# Altium integrated library Renesas Microprocessor SuperH.IntLib: 433 symbols (part 32 of 62)
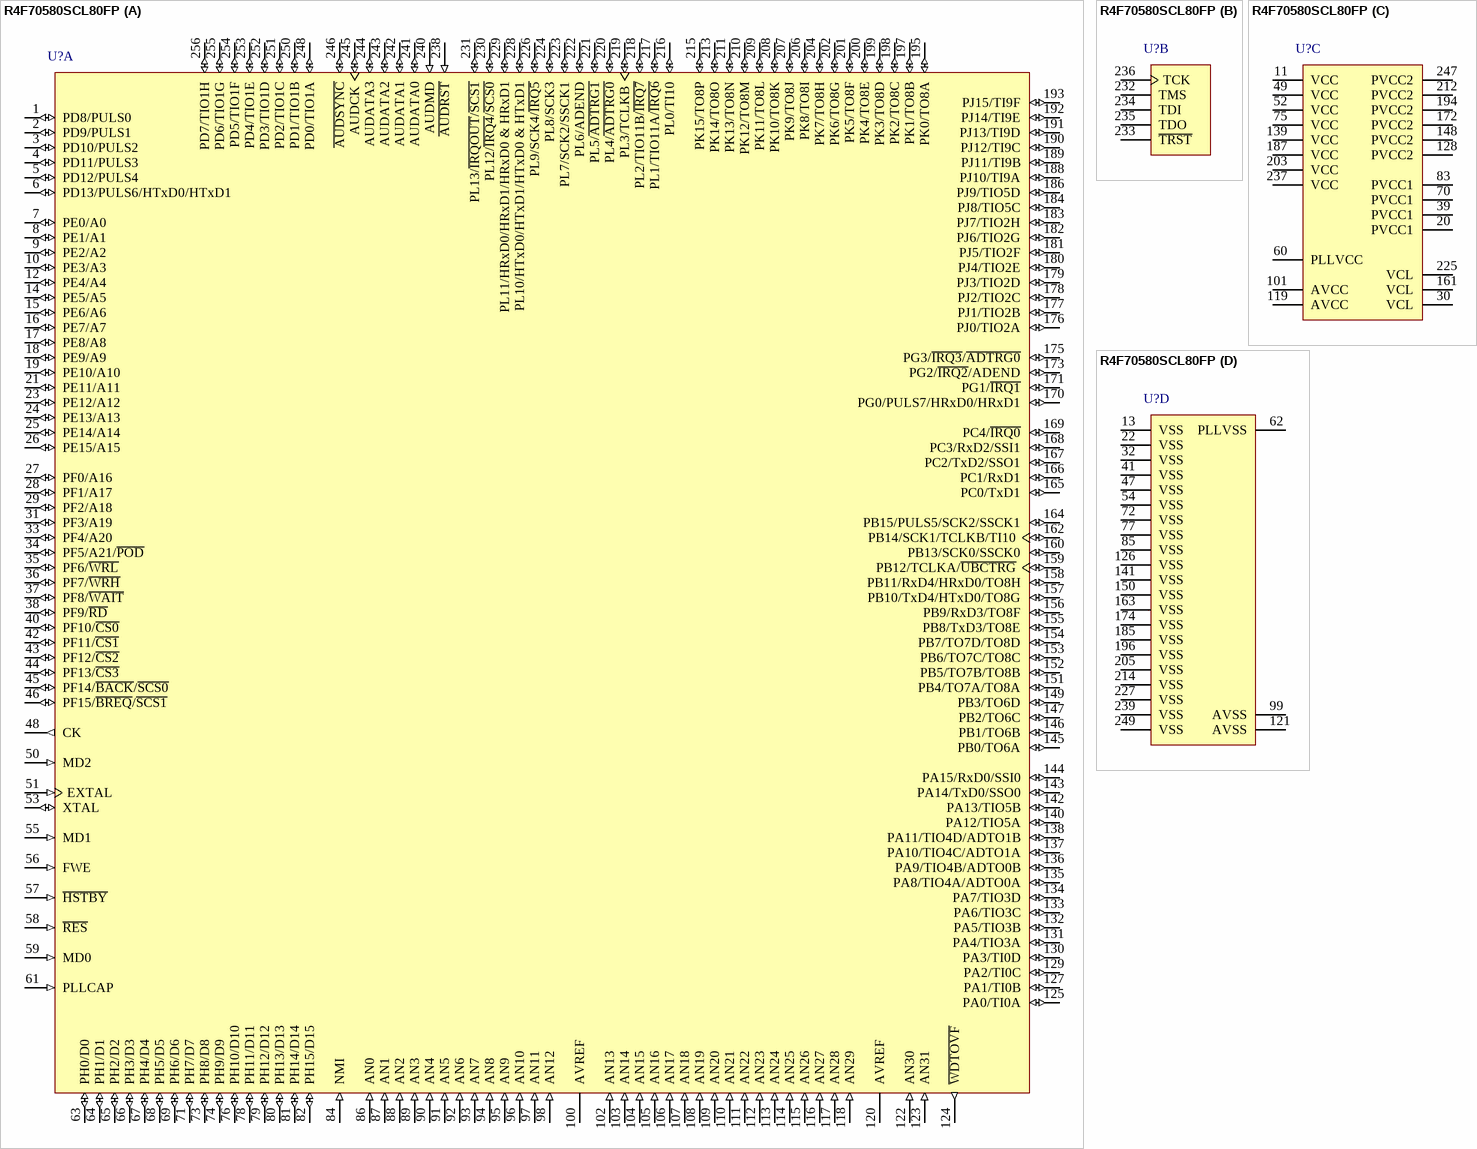
[diagram p401: symbol R4F70580SCL80FP]

## R4F70580SCL80FP
designator U?
32-Bit RISC Microcomputer, SH7050 Series, SH-2E core, 80MHz, 1M ROM, 48K RAM, 256-pin PQFP, -40 to 125°C; Published: 28-Aug-2009; DatasheetVersion: Rev.4.00, Mar-2009; PackageVersion: Sep-2005; PackageReference: PRQP0256KB-A; Publisher: Altium Limited; PackageDescription: 256-Pin Plastic Quad Flat Pack, 40 x 28 x 3.2 mm Body, 0.5 mm Pitch; Code_JEITA: P-QFP256-28x40-0.50; ComponentLink1Description: Manufacturer Link; ComponentLink1URL: http://www.renesas.com/fmwk.jsp?cnt=sh7059_root.jsp&fp=/products/mpumcu/superh_family/sh7050_series/sh7059_group/; ComponentLink2Description: Datasheet; ComponentLink2URL: http://documentation.renesas.com/eng/products/mpumcu/rej09b0177_7059_58fhm.pdf; ComponentLink3Description: Packaging Specification; ComponentLink3URL: http://sg.renesas.com/media/products/common_info/package/pdf/ic/code/prqp0256kb_a.pdf
footprint PRQP0256KB-A_N (Shrink QFP, 256-Leads, Body 40x28 mm, Pitch 0.5mm, IPC Medium Density)
footprint PRQP0256KB-A_L (Shrink QFP, 256-Leads, Body 40x28 mm, Pitch 0.5mm, IPC High Density)
footprint PRQP0256KB-A_M (Shrink QFP, 256-Leads, Body 40x28 mm, Pitch 0.5mm, IPC Low Density)
part A pins: 1 PD8/PULS0 (io), 2 PD9/PULS1 (io), 3 PD10/PULS2 (io), 4 PD11/PULS3 (io), 5 PD12/PULS4 (io), 6 PD13/PULS6/HTxD0/HTxD1 (io), 7 PE0/A0 (io), 8 PE1/A1 (io), 9 PE2/A2 (io), 10 PE3/A3 (io), 12 PE4/A4 (io), 14 PE5/A5 (io), 15 PE6/A6 (io), 16 PE7/A7 (io), 17 PE8/A8 (io), 18 PE9/A9 (io), 19 PE10/A10 (io), 21 PE11/A11 (io), 23 PE12/A12 (io), 24 PE13/A13 (io), 25 PE14/A14 (io), 26 PE15/A15 (io), 27 PF0/A16 (io), 28 PF1/A17 (io), 29 PF2/A18 (io), 31 PF3/A19 (io), 33 PF4/A20 (io), 34 PF5/A21/~{POD} (io), 35 PF6/~{WRL} (io), 36 PF7/~{WRH} (io), 37 PF8/~{WAIT} (io), 38 PF9/~{RD} (io), 40 PF10/~{CS0} (io), 42 PF11/~{CS1} (io), 43 PF12/~{CS2} (io), 44 PF13/~{CS3} (io), 45 PF14/~{BACK}/~{SCS0} (io), 46 PF15/~{BREQ}/~{SCS1} (io), 48 CK (out), 50 MD2 (in), 51 EXTAL (in), 53 XTAL (io), 55 MD1 (in), 56 FWE (in), 57 ~{HSTBY} (in), 58 ~{RES} (in), 59 MD0 (in), 61 PLLCAP (in), 63 PH0/D0 (io), 64 PH1/D1 (io), 65 PH2/D2 (io), 66 PH3/D3 (io), 67 PH4/D4 (io), 68 PH5/D5 (io), 69 PH6/D6 (io), 71 PH7/D7 (io), 73 PH8/D8 (io), 74 PH9/D9 (io), 76 PH10/D10 (io), 78 PH11/D11 (io), 79 PH12/D12 (io), 80 PH13/D13 (io), 81 PH14/D14 (io), 82 PH15/D15 (io), 84 NMI (in), 86 AN0 (in), 87 AN1 (in), 88 AN2 (in), 89 AN3 (in), 90 AN4 (in), 91 AN5 (in), 92 AN6 (in), 93 AN7 (in), 94 AN8 (in), 95 AN9 (in), 96 AN10 (in), 97 AN11 (in), 98 AN12 (in), 100 AVREF (power), 102 AN13 (in), 103 AN14 (in), 104 AN15 (in), 105 AN16 (in), 106 AN17 (in), 107 AN18 (in), 108 AN19 (in), 109 AN20 (in), 110 AN21 (in), 111 AN22 (in), 112 AN23 (in), 113 AN24 (in), 114 AN25 (in), 115 AN26 (in), 116 AN27 (in), 117 AN28 (in), 118 AN29 (in), 120 AVREF (power), 122 AN30 (in), 123 AN31 (in), 124 ~{WDTOVF} (out), 125 PA0/TI0A (io), 127 PA1/TI0B (io), 129 PA2/TI0C (io), 130 PA3/TI0D (io), 131 PA4/TIO3A (io), 132 PA5/TIO3B (io), 133 PA6/TIO3C (io), 134 PA7/TIO3D (io), 135 PA8/TIO4A/ADTO0A (io), 136 PA9/TIO4B/ADTO0B (io), 137 PA10/TIO4C/ADTO1A (io), 138 PA11/TIO4D/ADTO1B (io), 140 PA12/TIO5A (io), 142 PA13/TIO5B (io), 143 PA14/TxD0/SSO0 (io), 144 PA15/RxD0/SSI0 (io), 145 PB0/TO6A (io), 146 PB1/TO6B (io), 147 PB2/TO6C (io), 149 PB3/TO6D (io), 151 PB4/TO7A/TO8A (io), 152 PB5/TO7B/TO8B (io), 153 PB6/TO7C/TO8C (io), 154 PB7/TO7D/TO8D (io), 155 PB8/TxD3/TO8E (io), 156 PB9/RxD3/TO8F (io), 157 PB10/TxD4/HTxD0/TO8G (io), 158 PB11/RxD4/HRxD0/TO8H (io), 159 PB12/TCLKA/~{UBCTRG} (io), 160 PB13/SCK0/SSCK0 (io), 162 PB14/SCK1/TCLKB/TI10 (io), 164 PB15/PULS5/SCK2/SSCK1 (io), 165 PC0/TxD1 (io), 166 PC1/RxD1 (io), 167 PC2/TxD2/SSO1 (io), 168 PC3/RxD2/SSI1 (io), 169 PC4/~{IRQ0} (io), 170 PG0/PULS7/HRxD0/HRxD1 (io), 171 PG1/~{IRQ1} (io), 173 PG2/~{IRQ2}/ADEND (io), 175 PG3/~{IRQ3}/~{ADTRG0} (io), 176 PJ0/TIO2A (io), 177 PJ1/TIO2B (io), 178 PJ2/TIO2C (io), 179 PJ3/TIO2D (io), 180 PJ4/TIO2E (io), 181 PJ5/TIO2F (io), 182 PJ6/TIO2G (io), 183 PJ7/TIO2H (io), 184 PJ8/TIO5C (io), 186 PJ9/TIO5D (io), 188 PJ10/TI9A (io), 189 PJ11/TI9B (io), 190 PJ12/TI9C (io), 191 PJ13/TI9D (io), 192 PJ14/TI9E (io), 193 PJ15/TI9F (io), 195 PK0/TO8A (io), 197 PK1/TO8B (io), 198 PK2/TO8C (io), 199 PK3/TO8D (io), 200 PK4/TO8E (io), 201 PK5/TO8F (io), 202 PK6/TO8G (io), 204 PK7/TO8H (io), 206 PK8/TO8I (io), 207 PK9/TO8J (io), 208 PK10/TO8K (io), 209 PK11/TO8L (io), 210 PK12/TO8M (io), 211 PK13/TO8N (io), 213 PK14/TO8O (io), 215 PK15/TO8P (io), 216 PL0/TI10 (io), 217 PL1/TIO11A/~{IRQ6} (io), 218 PL2/TIO11B/~{IRQ7} (io), 219 PL3/TCLKB (io), 220 PL4/~{ADTRG0} (io), 221 PL5/~{ADTRG1} (io), 222 PL6/ADEND (io), 223 PL7/SCK2/SSCK1 (io), 224 PL8/SCK3 (io), 226 PL9/SCK4/~{IRQ5} (io), 228 PL10/HTxD0/HTxD1/HTxD0 & HTxD1 (io), 229 PL11/HRxD0/HRxD1/HRxD0 & HRxD1 (io), 230 PL12/~{IRQ4}/~{SCS0} (io), 231 PL13/~{IRQOUT}/~{SCS1} (io), 238 ~{AUDRST} (in), 240 AUDMD (in), 241 AUDATA0 (io), 242 AUDATA1 (io), 243 AUDATA2 (io), 244 AUDATA3 (io), 245 AUDCK (io), 246 ~{AUDSYNC} (io), 248 PD0/TIO1A (io), 250 PD1/TIO1B (io), 251 PD2/TIO1C (io), 252 PD3/TIO1D (io), 253 PD4/TIO1E (io), 254 PD5/TIO1F (io), 255 PD6/TIO1G (io), 256 PD7/TIO1H (io)
part B pins: 232 TMS, 233 ~{TRST}, 234 TDI, 235 TDO, 236 TCK
part C pins: 11 VCC (power), 20 PVCC1 (power), 30 VCL (power), 39 PVCC1 (power), 49 VCC (power), 52 VCC (power), 60 PLLVCC (power), 70 PVCC1 (power), 75 VCC (power), 83 PVCC1 (power), 101 AVCC (power), 119 AVCC (power), 128 PVCC2 (power), 139 VCC (power), 148 PVCC2 (power), 161 VCL (power), 172 PVCC2 (power), 187 VCC (power), 194 PVCC2 (power), 203 VCC (power), 212 PVCC2 (power), 225 VCL (power), 237 VCC (power), 247 PVCC2 (power)
part D pins: 13 VSS (power), 22 VSS (power), 32 VSS (power), 41 VSS (power), 47 VSS (power), 54 VSS (power), 62 PLLVSS (power), 72 VSS (power), 77 VSS (power), 85 VSS (power), 99 AVSS (power), 121 AVSS (power), 126 VSS (power), 141 VSS (power), 150 VSS (power), 163 VSS (power), 174 VSS (power), 185 VSS (power), 196 VSS (power), 205 VSS (power), 214 VSS (power), 227 VSS (power), 239 VSS (power), 249 VSS (power)

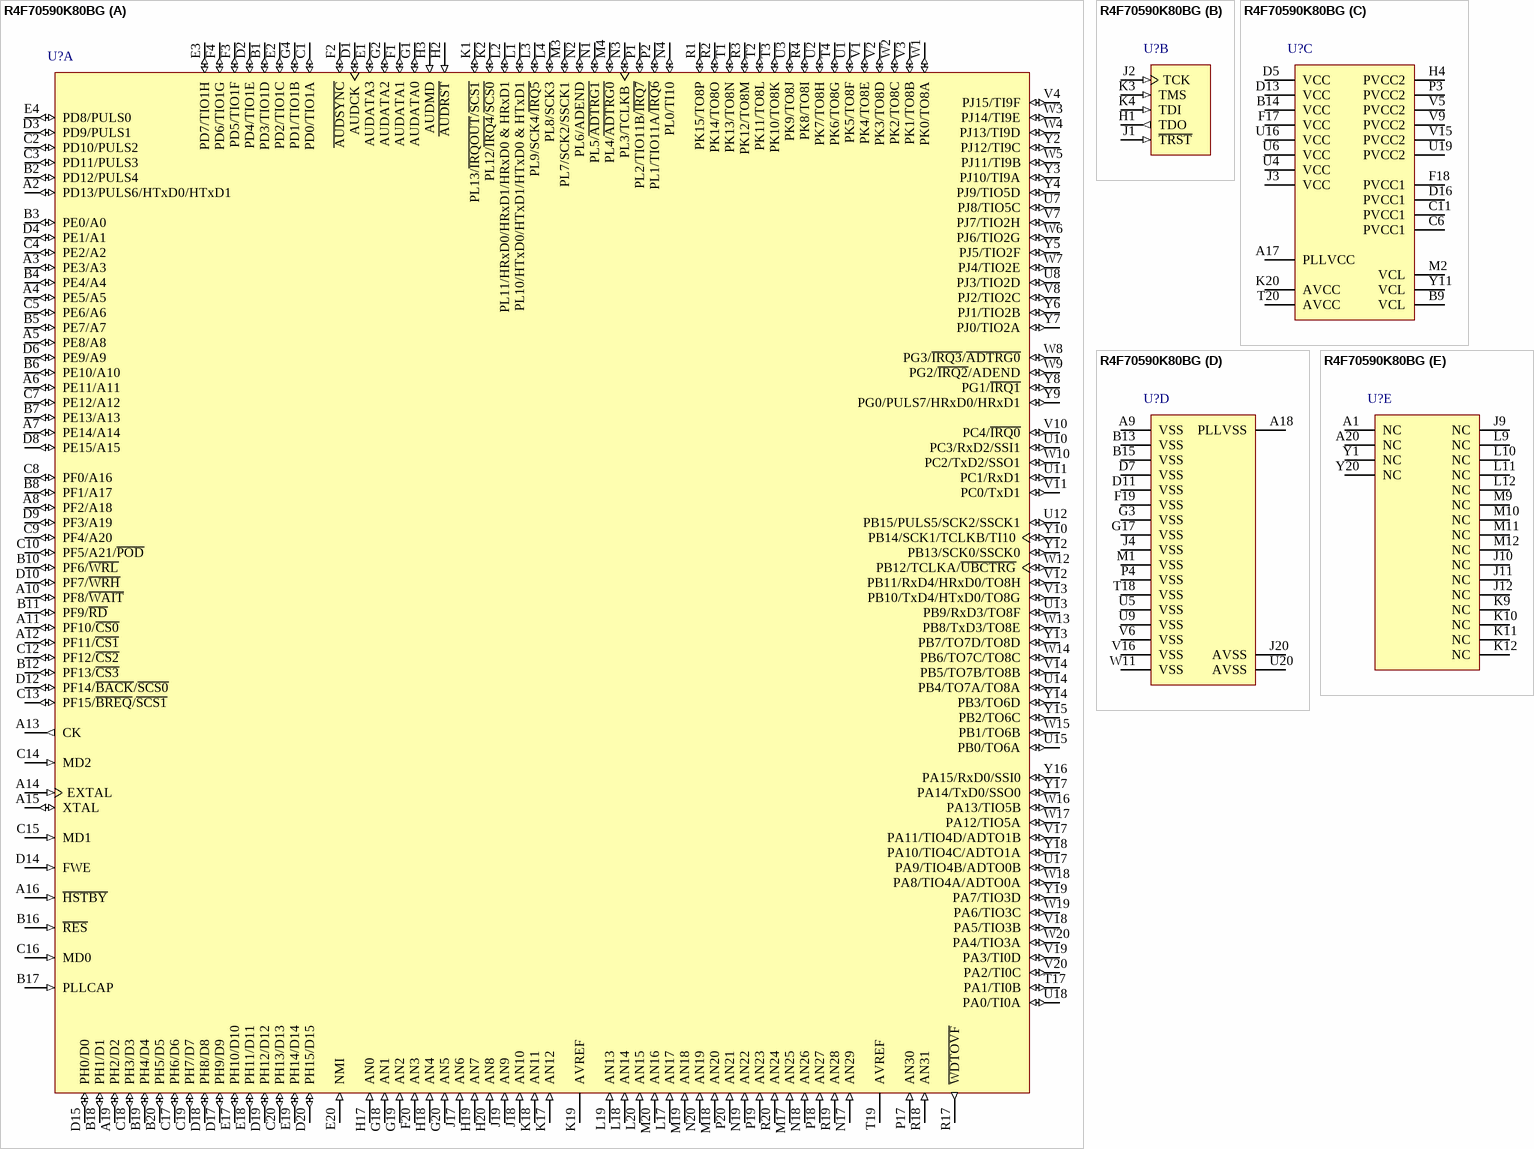
[diagram p118: symbol R4F70590K80BG]